# EAGLE library part SAMTEC-CLP-110-02-X-D (library SAMTEC-CLP-110-02-X-D)
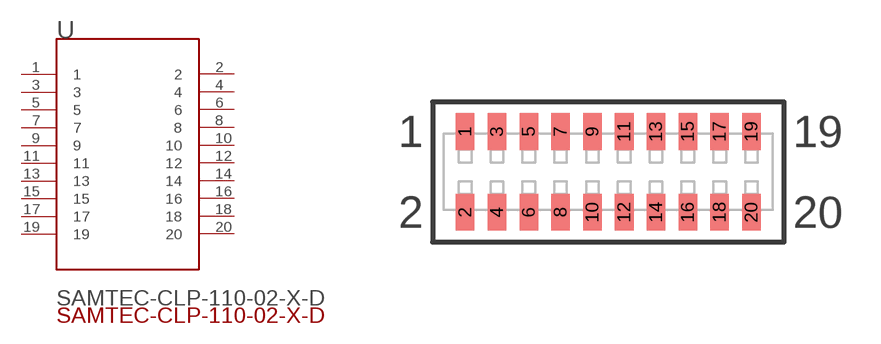
[diagram p0: symbol with the pads of SAMTEC-CLP-110-02-X-D; footprint SAMTEC-CLP-110-02-X-D]

Designator prefix -

## SAMTEC-CLP-110-02-X-DJ (Description: .050 Tiger Claw™ Rugged Reliable Dual Wipe Socket Strip; Digi-Key_Part_Number: CLP-110-02-L-D-TR-ND; Digi-Key_Purchase_URL: https://www.digikey.co.id/product-detail/en/samtec-inc/CLP-110-02-L-D-TR/CLP-110-02-L-D-TR-ND/6613228?utm_source=snapeda&utm_medium=aggregator&utm_campaign=symbol; MF: Samtec Inc.; MP: CLP-110-02-L-D-TR; Package: None)  [SAMTEC-CLP-110-02-X-D]
1  1  pas
2  2  pas
3  3  pas
4  4  pas
5  5  pas
6  6  pas
7  7  pas
8  8  pas
9  9  pas
10  10  pas
11  11  pas
12  12  pas
13  13  pas
14  14  pas
15  15  pas
16  16  pas
17  17  pas
18  18  pas
19  19  pas
20  20  pas

## Footprint SAMTEC-CLP-110-02-X-D (pad centres in mm)
translated Allegro footprint
smd 0.74 x 1.47: 1 -5.715,1.613; 2 -5.715,-1.613; 3 -4.445,1.613; 4 -4.445,-1.613; 5 -3.175,1.613; 6 -3.175,-1.613; 7 -1.905,1.613; 8 -1.905,-1.613; 9 -0.635,1.613; 10 -0.635,-1.613; 11 0.635,1.613; 12 0.635,-1.613; 13 1.905,1.613; 14 1.905,-1.613; 15 3.175,1.613; 16 3.175,-1.613; 17 4.445,1.613; 18 4.445,-1.613; 19 5.715,1.613; 20 5.715,-1.613